# EAGLE library part MTOP-8 (library con-amp)
AMP connector
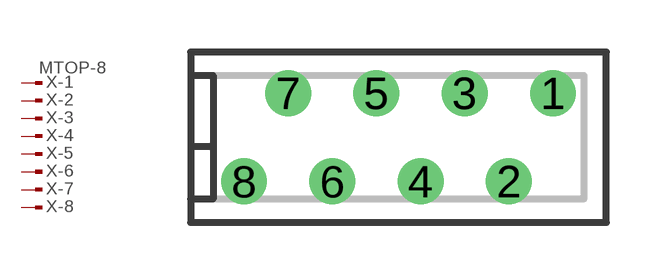
[diagram p104: symbol with the pads of MTOP-8; footprint MTOP-8]

Designator prefix X; gates -1=PIN-MV -2=PIN-M -3=PIN-M -4=PIN-M -5=PIN-M -6=PIN-M -7=PIN-M -8=PIN-M

## MTOP-8 (OC_FARNELL: unknown; OC_NEWARK: unknown)  [MTOP-8]
1  -1:1  pas
2  -2:1  pas
3  -3:1  pas
4  -4:1  pas
5  -5:1  pas
6  -6:1  pas
7  -7:1  pas
8  -8:1  pas

## Footprint MTOP-8 (pad centres in mm)
AMP connector
drill 0.813 round: 1 4.445,1.27; 2 3.175,-1.27; 3 1.905,1.27; 4 0.635,-1.27; 5 -0.635,1.27; 6 -1.905,-1.27; 7 -3.175,1.27; 8 -4.445,-1.27